# EAGLE library part MS5611-01BA03 (library Quad_Cape)
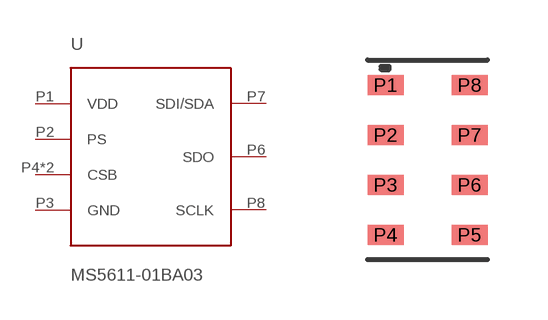
[diagram p3: symbol with the pads of MS5611-01BA03; footprint MS5611-01BA03]

Designator prefix U

## MS5611-01BA03  [MS5611-01BA03]
P1  VDD
P2  PS
P3  GND
P4  CSB
P5  CSB
P6  SDO
P7  SDI/SDA
P8  SCLK

## Footprint MS5611-01BA03 (pad centres in mm)
smd 0.9 x 0.5: P1 -1.05,1.875; P2 -1.05,0.625; P3 -1.05,-0.625; P4 -1.05,-1.875; P5 1.05,-1.875; P6 1.05,-0.625; P7 1.05,0.625; P8 1.05,1.875